# EAGLE library part 693063020911 (library Wurth_Elektronik_Electromechanic_Input-Output_Connectors_rev16b)
WR-CRD SD CARD CONNECTOR PUSH & PULL SHORT TYPE WITH CARD DETECTION 9PINS=>Code : Con_I-O_COM_CRD_SD_Normal_693063020911 <http://katalog.we-online.de/media/images/eican/Con_I-O_COM_CRD_SD_Normal_693063020911_pf2.jpg> Details see: http://katalog.we-online.de/en/em/693_063_020_911 Created 2014-07-09, Karrer Zheng 2014 (C) Würth Elektronik
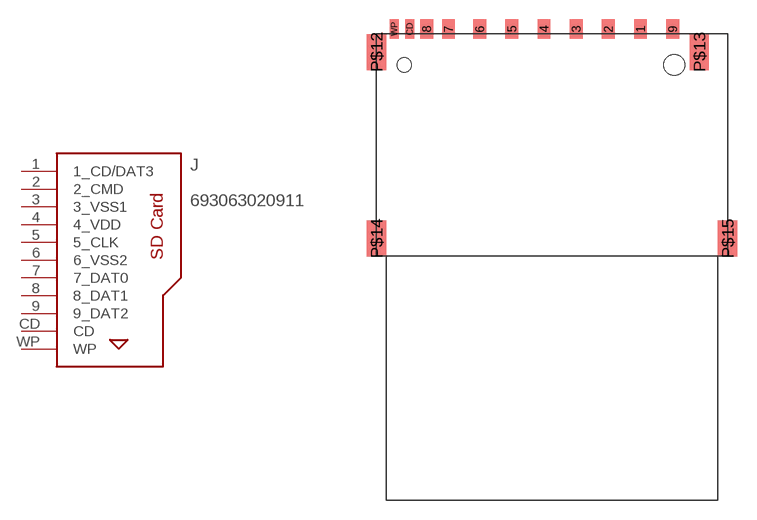
[diagram p94: symbol with the pads of 693063020911; footprint 693063020911]

Designator prefix J

## 693063020911  [693063020911]
1  1_CD/DAT3
2  2_CMD
3  3_VSS1
4  4_VDD
5  5_CLK
6  6_VSS2
7  7_DAT0
8  8_DAT1
9  9_DAT2
CD  CD
WP  WP

## Footprint 693063020911 (pad centres in mm)
WR-CRD SD CARD CONNECTOR PUSH & PULL SHORT TYPE WITH CARD DETECTION 9PINS
smd 1 x 1.5: 1 19.125,0; 2 16.625,0; 3 14.125,0; 4 11.625,0; 5 9.125,0; 6 6.625,0; 7 4.2,0; 8 2.5,0; 9 21.625,0
smd 0.7 x 1.5: CD 1.2,0; WP 0,0
smd 1.5 x 2.8: P$12 -1.4,-1.8; P$13 23.7,-1.8; P$14 -1.4,-16.3; P$15 25.9,-16.3
hole 1.1 at 0.75,-2.8
hole 1.6 at 21.75,-2.8